# Altium footprint library photoelements.PcbLib: 4 footprints
Each footprint in its own frame and in the unit in brackets; x right, y up, seen from the top. Pads: shape width x height; smd on the part's side, far side on the other; paste and mask are expansions set on the pad; w line width, h text height; cw(c..) or ccw(c..) is an arc to the next point about the centre after c.
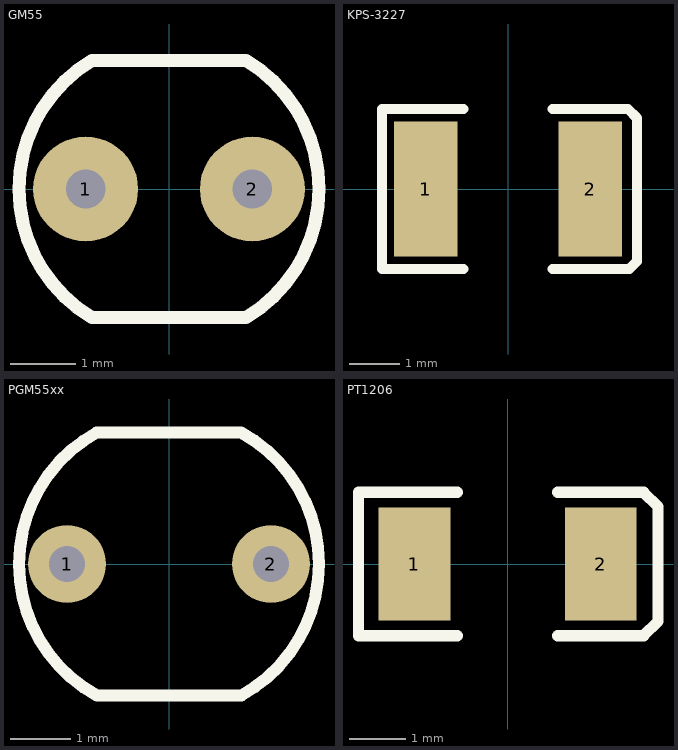
[diagram p0: the footprints below, top view; thin cyan lines are the x and y axes]

## GM55 [mm] "Photoresistor - 5 x 4.2 x 2.5 mm"
height 2.5
pads (2):
  round 1.6 hole 0.6: 1(-1.27,0) 2(1.27,0)
Top Overlay:
  lines w0.2: -1.176,-1.96 cw(c0,0) -1.176,1.96 1.176,1.96 cw(c0,0) 1.176,-1.96 -1.176,-1.96
3D body "Photoresistor.STEP": height 2.25, standoff -2.03, extent -2.311,-1.956 2.311,1.956

## KPS-3227 [mm]
height 2.2
pads (2):
  rect 1.27x2.7 smd: 1(-1.65,0) 2(1.65,0)
Top Overlay:
  lines w0.2: -0.889,-1.6 -2.525,-1.6 -2.525,1.6 -0.889,1.6 ; 0.889,-1.6 2.425,-1.6 2.575,-1.45 2.575,1.425 2.4,1.6 0.889,1.6
3D body "User Library-KPS-3227SP1C.step": height 1.12, standoff 0, extent -1.6,-1.35 1.6,1.35

## PGM55xx [mm] "SDC Photo Resistor, 3.4mm lead spacing, epoxy resin"
pads (2):
  round 1.3 hole 0.6: 1(-1.7,0) 2(1.7,0)
Top Overlay:
  lines w0.2: -1.205,2.191 ccw(c0,0) -1.197,-2.195 1.205,-2.191 ccw(c0,0) 1.197,2.195 -1.205,2.191
3D body: height 2.4, standoff 0, extent -2.5,-2.2 2.5,2.2

## PT1206 [mm]
height 2.2
pads (2):
  rect 1.27x2 smd: 1(-1.65,0) 2(1.65,0)
Top Overlay:
  lines w0.2: -0.889,-1.27 -2.642,-1.27 -2.642,1.27 -0.889,1.27 ; 0.889,-1.27 2.413,-1.27 2.667,-1.016 2.667,1.016 2.413,1.27 0.889,1.27
3D body "User Library-temt 6000.step": height 0.81, standoff -0.23, extent -2,-1 2,1